# Altium integrated library TC00500.IntLib: 1 symbol
Pins are listed as number, name and electrical type; pins without a type are passive.

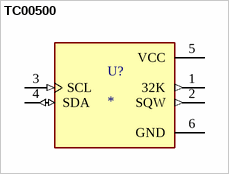
[diagram p0: symbol TC00500]

## TC00500
designator U?
DS3231 AT24C32 IIC module precision Real time clock quare memory for Arduino; MF: YKS; MP: TC00500; Value: *; Availability: Not in stock; Price: None; Package: None
footprint MODULE_TC00500
footprint Model Name (Footprint not found)
pins: 1 32K (out), 2 SQW (out), 3 SCL (in), 4 SDA (io), 5 VCC (power), 6 GND (power)